# EAGLE library part MP2639AGR-Z (library Deegou_IC)
Battery Management 2-Cell 2.5A Li-ion or Li-polymer Switching Charger Integrated Bidirectional Charge/Discharge Source: Datasheet <http://www.monolithicpower.com/pub/media/document/MP2639A_r1.0.pdf>
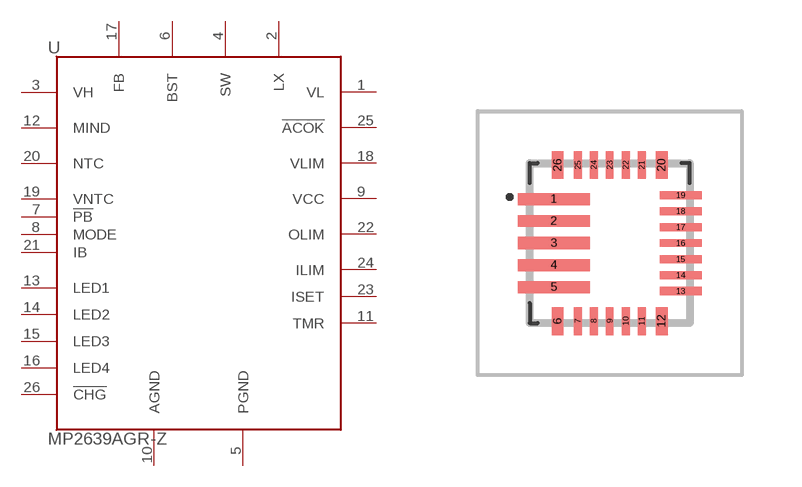
[diagram p100: symbol with the pads of MP2639AGRZ; footprint MP2639AGRZ]

Designator prefix U

## MP2639AGR-Z (ARROW_PART_NUMBER: MP2639AGR-Z; DESCRIPTION: Battery Management 2-Cell 2.5A Li-ion or Li-polymer Switching Charger Integrated Bidirectional Charge/Discharge; HEIGHT: 1mm; MANUFACTURER_NAME: Monolithic Power Systems (MPS); MANUFACTURER_PART_NUMBER: MP2639AGR-Z)  [MP2639AGRZ]
1  VL
2  LX
3  VH
4  SW
5  PGND
6  BST
7  !PB
8  MODE
9  VCC
10  AGND
11  TMR
12  MIND
13  LED1
14  LED2
15  LED3
16  LED4
17  FB
18  VLIM
19  VNTC
20  NTC
21  IB
22  OLIM
23  ISET
24  ILIM
25  !ACOK
26  !CHG

## Footprint MP2639AGRZ (pad centres in mm)
QFN-26 (4mmx4mm)
smd 1.8 x 0.3: 1 -1.4,1.1; 2 -1.4,0.55; 3 -1.4,0; 4 -1.4,-0.55; 5 -1.4,-1.1
smd 0.3 x 0.7: 6 -1.3,-1.95; 12 1.3,-1.95; 20 1.3,1.95; 26 -1.3,1.95
smd 0.2 x 0.7: 7 -0.8,-1.95; 8 -0.4,-1.95; 9 0,-1.95; 10 0.4,-1.95; 11 0.8,-1.95; 21 0.8,1.95; 22 0.4,1.95; 23 0,1.95; 24 -0.4,1.95; 25 -0.8,1.95
smd 1.05 x 0.2: 13 1.775,-1.2; 14 1.775,-0.8; 15 1.775,-0.4; 16 1.775,0; 17 1.775,0.4; 18 1.775,0.8; 19 1.775,1.2